# Altium footprint library NVTFS5C673NLTAG.PcbLib: 1 footprints
Each footprint in its own frame and in the unit in brackets; x right, y up, seen from the top. Pads: shape width x height; smd on the part's side, far side on the other; paste and mask are expansions set on the pad; w line width, h text height; cw(c..) or ccw(c..) is an arc to the next point about the centre after c.
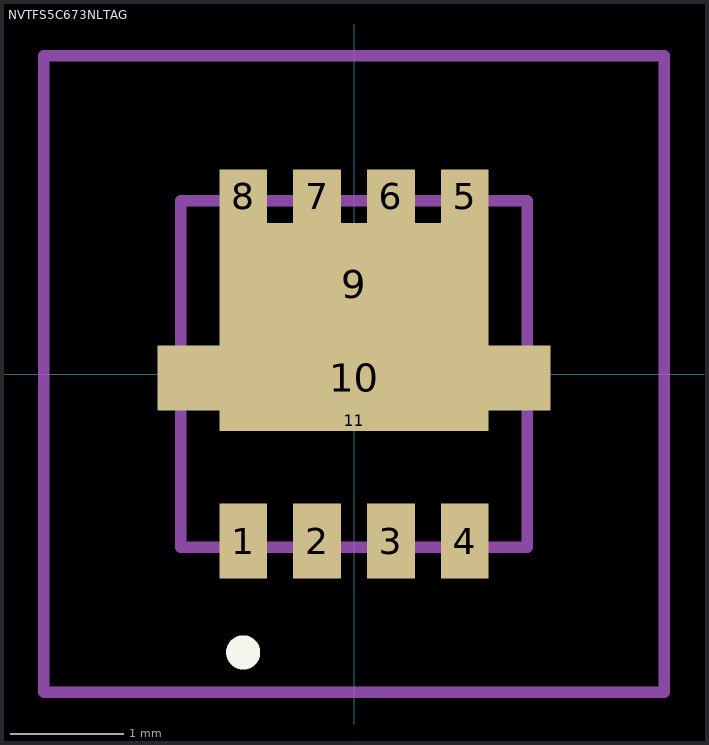
[diagram p0: the footprint, top view; thin cyan lines are the x and y axes]

## NVTFS5C673NLTAG [mm]
pads (11):
  rect 0.42x0.66 smd: 1(-0.975,-1.47) 2(-0.325,-1.47) 3(0.325,-1.47) 4(0.975,-1.47)
  rect 0.42x0.47 smd: 5(0.975,1.565) 6(0.325,1.565) 7(-0.325,1.565) 8(-0.975,1.565)
  rect 2.37x1.08 smd: 9(0,0.79)
  rect 3.46x0.57 smd: 10(0,-0.035)
  rect 2.37x0.18 smd: 11(0,-0.41)
Top Overlay:
  lines w0.2: -0.975,-2.5 -0.975,-2.5 ; -0.975,-2.5 ccw(c-0.975,-2.45) -0.975,-2.4 ; -0.975,-2.5 cw(c-0.975,-2.45) -0.975,-2.4 ; -0.975,-2.5 -0.975,-2.5 ; -0.975,-2.5 ccw(c-0.975,-2.45) -0.975,-2.4 ; -0.975,-2.4 -0.975,-2.4
Mechanical 15:
  lines w0.1: -1.525,-1.525 1.525,-1.525 1.525,1.525 -1.525,1.525 -1.525,-1.525
Mechanical 20:
  lines w0.1: -2.73,-2.8 2.73,-2.8 2.73,2.8 -2.73,2.8 -2.73,-2.8